# Altium footprint library E78-400M22S1A.PcbLib: 2 footprints
Each footprint in its own frame and in the unit in brackets; x right, y up, seen from the top. Pads: shape width x height; smd on the part's side, far side on the other; paste and mask are expansions set on the pad; w line width, h text height; cw(c..) or ccw(c..) is an arc to the next point about the centre after c.
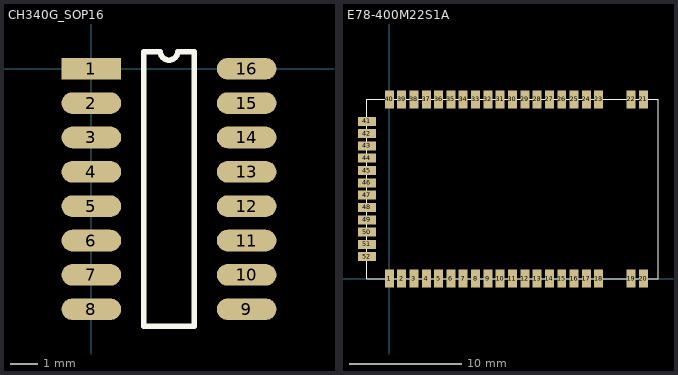
[diagram p0: the footprints below, top view; thin cyan lines are the x and y axes]

## CH340G_SOP16 [mm]
pads (16):
  rect 2.2x0.8 smd: 1(0,0)
  oval 2.2x0.8 smd: 2(0,-1.27) 3(0,-2.54) 4(0,-3.81) 5(0,-5.08) 6(0,-6.35) 7(0,-7.62) 8(0,-8.89) 9(5.74,-8.89) 10(5.74,-7.62) 11(5.74,-6.35) 12(5.74,-5.08) 13(5.74,-3.81) 14(5.74,-2.54) 15(5.74,-1.27) 16(5.74,0)
Top Overlay:
  lines w0.2: 1.935,-9.525 3.805,-9.525 3.805,0.635 3.187,0.635 cw(c2.87,0.635) 2.552,0.635 1.935,0.635 1.935,-9.525

## E78-400M22S1A [mm]
pads (52):
  rect 0.8x1.6 smd: 1(0,0) 2(1.1,0) 3(2.2,0) 4(3.3,0) 5(4.4,0) 6(5.5,0) 7(6.6,0) 8(7.7,0) 9(8.8,0) 10(9.9,0) 11(11,0) 12(12.1,0) 13(13.2,0) 14(14.3,0) 15(15.4,0) 16(16.5,0) 17(17.6,0) 18(18.7,0) 19(21.6,0) 20(22.7,0) 21(22.7,16) 22(21.6,16) 23(18.7,16) 24(17.6,16) 25(16.5,16) 26(15.4,16) 27(14.3,16) 28(13.2,16) 29(12.1,16) 30(11,16) 31(9.9,16) 32(8.8,16) 33(7.7,16) 34(6.6,16) 35(5.5,16) 36(4.4,16) 37(3.3,16) 38(2.2,16) 39(1.1,16) 40(0,16)
  rect 1.6x0.8 smd: 41(-2,14.05) 42(-2,12.95) 43(-2,11.85) 44(-2,10.75) 45(-2,9.65) 46(-2,8.55) 47(-2,7.45) 48(-2,6.35) 49(-2,5.25) 50(-2,4.15) 51(-2,3.05) 52(-2,1.95)
Top Overlay:
  lines w0.1: -2,0 -2,16 24,16 24,0 -2,0